# Altium footprint library SOT-143B-4.PCBLIB: 1 footprints
Each footprint in its own frame and in the unit in brackets; x right, y up, seen from the top. Pads: shape width x height; smd on the part's side, far side on the other; paste and mask are expansions set on the pad; w line width, h text height; cw(c..) or ccw(c..) is an arc to the next point about the centre after c.
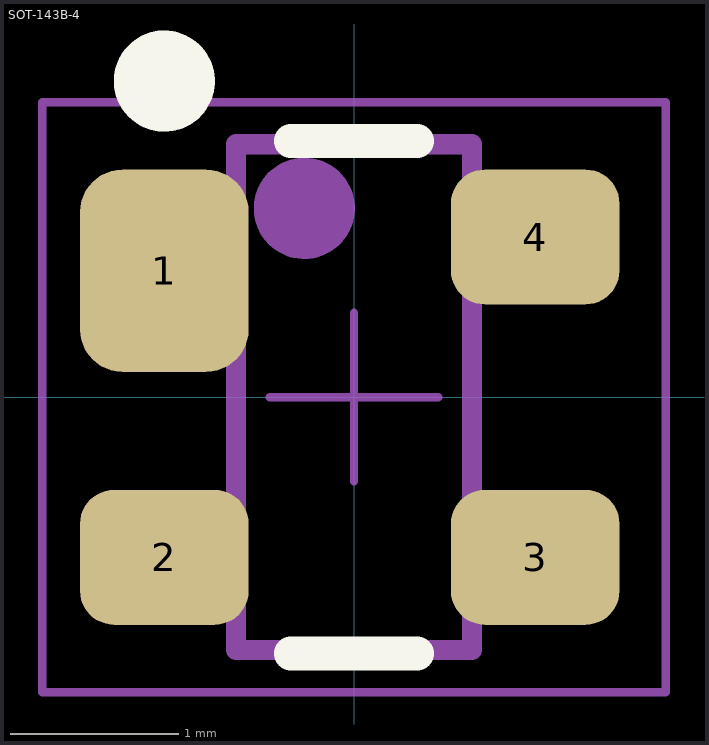
[diagram p0: the footprint, top view; thin cyan lines are the x and y axes]

## SOT-143B-4 [mm]
height 1.14
pads (4):
  rrect50% 1x1.2 smd: 1(-1.125,0.75)
  rrect50% 1x0.8 smd: 2(-1.125,-0.95) 3(1.075,-0.95) 4(1.075,0.95)
Top Overlay:
  circle w0.3: c-1.125,1.875 r0.15
  lines w0.2: -0.375,-1.52 0.375,-1.52 ; -0.375,1.52 0.375,1.52
Top Assembly:
  circle w0.3: c-0.295,1.12 r0.15
  lines w0.12: -0.7,-1.5 0.7,-1.5 0.7,1.5 -0.7,1.5 -0.7,-1.5
Top Courtyard:
  lines w0.05: -1.85,-1.75 1.85,-1.75 1.85,1.75 -1.85,1.75 -1.85,-1.75
Top Designator:
  text ".Designator" at -0.725,-2.65 h1
Top Component Center:
  lines w0.05: -0.5,0 0.5,0 ; 0,-0.5 0,0.5
3D body "SOT143.step": height 1, standoff 0, extent -1.21,-1.435 1.21,1.485